# EAGLE library part TPS61089 (library Micromouse 2020)
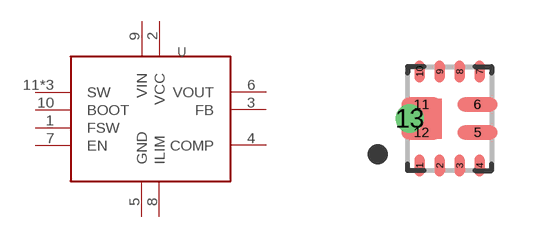
[diagram p3: symbol with the pads of TPS61089; footprint TPS61089]

Designator prefix U

## TPS61089  [TPS61089]
1  FSW  in
2  VCC  pwr
3  FB  in
4  COMP
5  GND  pas
6  VOUT  out
7  EN  in
8  ILIM  pas
9  VIN  pwr
10  BOOT  in
11  SW  out
12  SW  out
13  SW  out

## Footprint TPS61089 (pad centres in mm)
12-QFN, 0.50 mm pitch, 2.00 X 2.50 X 1.00 mm body 12-pin QFN package with 0.50 mm pitch with body size 2.00 X 2.50 X 1.00 mm
smd 0.25 x 0.55: 1 -0.75,-1.175; 2 -0.25,-1.175; 3 0.25,-1.175; 4 0.75,-1.175; 7 0.75,1.175; 8 0.25,1.175; 9 -0.25,1.175; 10 -0.75,1.175
smd 1 x 0.35: 5 0.7,-0.35; 6 0.7,0.35; 11 -0.7,0.35; 12 -0.7,-0.35
drill 0.2 pad 0.45: 13 -1,0